# EAGLE library part 653114124022 (library Wire-to-Board (rev18a))
WR-WTB 1.25mm SMT Male Vertical Shrouded Header, 14 Pins=>Code : Con_WTB_1.25_PCB_SMT_653114124022 <http://katalog.we-online.de/media/thumbs2/eican/thb_Con_WTB_1.25_PCB_SMT_6530xx124022_pf2.psd.jpg> Details see: http://katalog.we-online.de/en/em/WTB_1_25_SMT_MALE_VERTICAL_SHROUDED_HEADER_6531XX124022 Created 2014-06-06, Karrer Zheng 2014 (C) Würth Elektronik
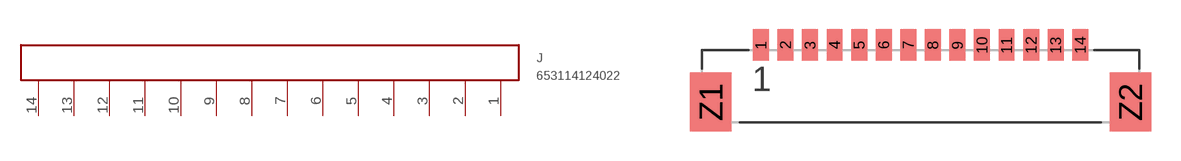
[diagram p61: symbol with the pads of 653114124022; footprint 653114124022]

Designator prefix J

## 653114124022  [653114124022]
1  14  pas
2  13  pas
3  12  pas
4  11  pas
5  10  pas
6  9  pas
7  8  pas
8  7  pas
9  6  pas
10  5  pas
11  4  pas
12  3  pas
13  2  pas
14  1  pas

## Footprint 653114124022 (pad centres in mm)
WR-WTB 1.25mm SMT Male Vertical Shrouded Header, 14 Pins
smd 0.81 x 1.6: 1 -8.125,0; 2 -6.875,0; 3 -5.625,0; 4 -4.375,0; 5 -3.125,0; 6 -1.875,0; 7 -0.625,0; 8 0.625,0; 9 1.875,0; 10 3.125,0; 11 4.375,0; 12 5.625,0; 13 6.875,0; 14 8.125,0
smd 2.1 x 3: Z1 -10.675,-2.9; Z2 10.675,-2.9